# EAGLE library part INA210CIRSWT (library HBPMouse)
Current Sense Amplifiers 26-V, Bi-Directional, Zero-Drift, High Accuracy, Low-/High-Side, Voltage Out Current Shunt Monitor 10-UQFN -40 to 125 Source: Datasheet <http://www.ti.com/lit/ds/sbos437j/sbos437j.pdf>
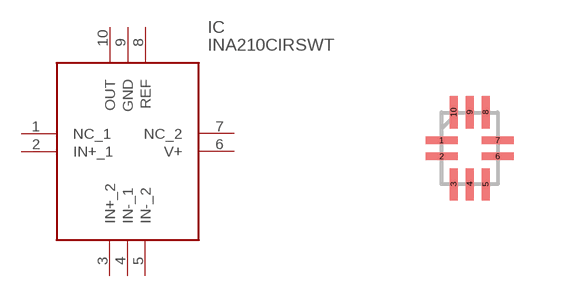
[diagram p10: symbol with the pads of QFN40P140X180X55-10N; footprint QFN40P140X180X55-10N]

Designator prefix IC

## INA210CIRSWT (DESCRIPTION: Current Sense Amplifiers 26-V, Bi-Directional, Zero-Drift, High Accuracy, Low-/High-Side, Voltage Out Current Shunt Monitor 10-UQFN -40 to 125; HEIGHT: 0.55mm; MANUFACTURER_NAME: Texas Instruments; MANUFACTURER_PART_NUMBER: INA210CIRSWT; MOUSER_PART_NUMBER: 595-INA210CIRSWT; MOUSER_PRICE-STOCK: https://www.mouser.com/Search/Refine.aspx?Keyword=595-INA210CIRSWT)  [QFN40P140X180X55-10N]
1  NC_1
2  IN+_1
3  IN+_2
4  IN-_1
5  IN-_2
6  V+
7  NC_2
8  REF
9  GND
10  OUT

## Footprint QFN40P140X180X55-10N (pad centres in mm)
RSW(R-PUQFN-N10)-1
smd 0.8 x 0.2: 1 -0.7,0.2; 2 -0.7,-0.2; 6 0.7,-0.2; 7 0.7,0.2
smd 0.2 x 0.8: 3 -0.4,-0.9; 4 0,-0.9; 5 0.4,-0.9; 8 0.4,0.9; 9 0,0.9; 10 -0.4,0.9